# EAGLE library part 1EDN8511B (library hot-wand)
1EDN8511B SOT95P280X145-6N-7-V EiceDRIVER, Fast Single Channel 4A/8A Low-Side Gate Driver, UVLO - 8V
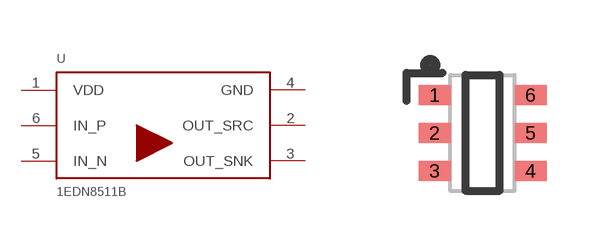
[diagram p1: symbol with the pads of SOT95P280X145-6N-7-V; footprint SOT95P280X145-6N-7-V]

Designator prefix U

## 1EDN8511B  [SOT95P280X145-6N-7-V]
1  VDD  pwr
2  OUT_SRC  out
3  OUT_SNK  out
4  GND  pwr
5  IN_N  in
6  IN_P  in

## Footprint SOT95P280X145-6N-7-V (pad centres in mm)
Original name SOT95P280X145-6N-7-V Max Component Height - 1.45mm
smd 0.8 x 0.5: 1 -1.2,0.95; 2 -1.2,0; 3 -1.2,-0.95; 4 1.2,-0.95; 5 1.2,0; 6 1.2,0.95